# EAGLE library part ATTINY13A (library ERIC)
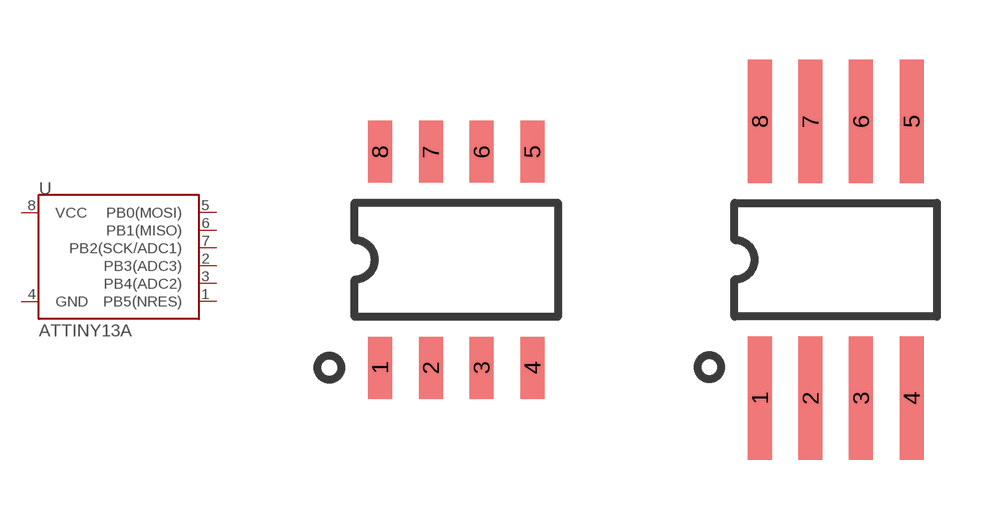
[diagram p5: symbol with the pads of SOIC_8_N; footprints SOIC_8_N, SOIC_8_N_LONG]

Designator prefix -

## ATTINY13ASOIC  [SOIC_8_N]
1  PB5(NRES)
2  PB3(ADC3)
3  PB4(ADC2)
4  GND
5  PB0(MOSI)
6  PB1(MISO)
7  PB2(SCK/ADC1)
8  VCC

## ATTINY13ASOIC_LONG  [SOIC_8_N_LONG]
Pads as for SOIC_8_N

## Footprint SOIC_8_N (pad centres in mm)
smd 0.6 x 1.55: 1 -1.905,-2.7; 2 -0.635,-2.7; 3 0.635,-2.7; 4 1.905,-2.7; 5 1.905,2.7; 6 0.635,2.7; 7 -0.635,2.7; 8 -1.905,2.7

## Footprint SOIC_8_N_LONG (pad centres in mm)
smd 0.6 x 3.1: 1 -1.905,-3.475; 2 -0.635,-3.475; 3 0.635,-3.475; 4 1.905,-3.475; 5 1.905,3.475; 6 0.635,3.475; 7 -0.635,3.475; 8 -1.905,3.475